# Altium schematic symbol library Software.Schlib: 1 symbol
Pins are listed as number, name and electrical type; pins without a type are passive.

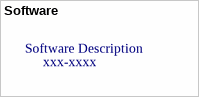
[diagram p0: symbol Software]

## Software
designator *, comment Software Description  CMW P/N: xxx-xxxx  (mechanical)